# EAGLE library part IC-PCA9512AD (library FirePick)
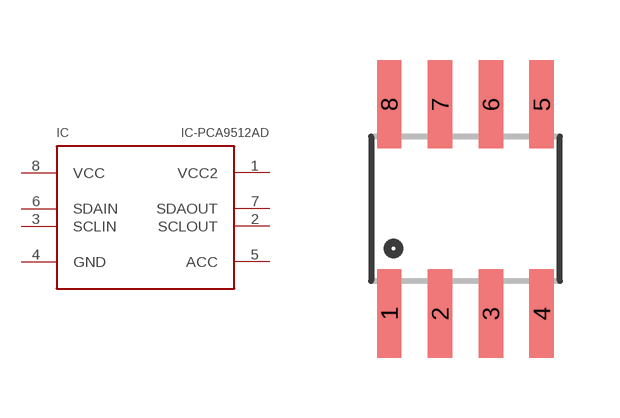
[diagram p16: symbol with the pads of SOIC-8; footprint SOIC-8]

Designator prefix IC

## IC-PCA9512AD  [SOIC-8]
1  VCC2
2  SCLOUT
3  SCLIN
4  GND
5  ACC
6  SDAIN
7  SDAOUT
8  VCC

## Footprint SOIC-8 (pad centres in mm)
smd 0.61 x 2.21: 1 -1.905,-2.616; 2 -0.635,-2.616; 3 0.635,-2.616; 4 1.905,-2.616; 5 1.905,2.616; 6 0.635,2.616; 7 -0.635,2.616; 8 -1.905,2.616